# Altium footprint library samd21-temp.PCBLIB: 31 footprints (part 1 of 2)
Each footprint in its own frame and in the unit in brackets; x right, y up, seen from the top. Pads: shape width x height; smd on the part's side, far side on the other; paste and mask are expansions set on the pad; w line width, h text height; cw(c..) or ccw(c..) is an arc to the next point about the centre after c.
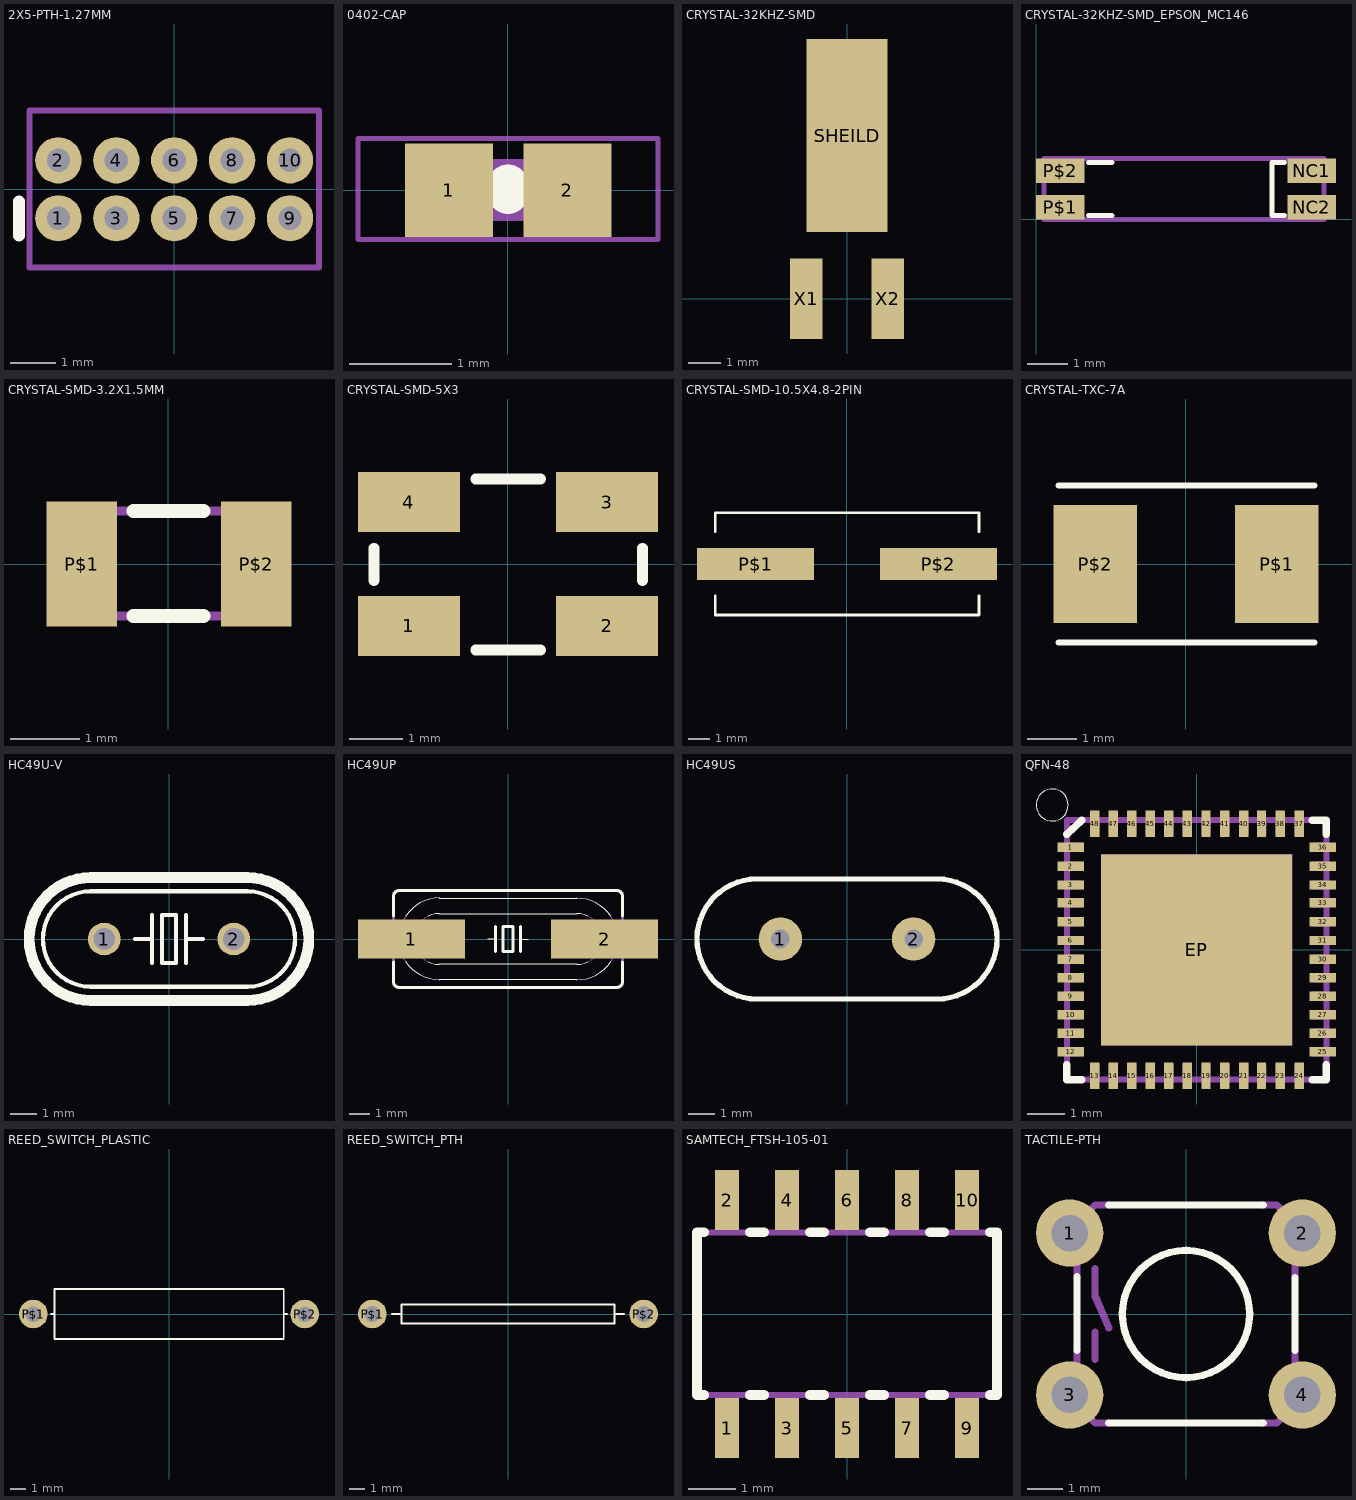
[diagram p0: the footprints below, top view; thin cyan lines are the x and y axes]

## 2X5-PTH-1.27MM [mil]
pads (10):
  round 40 hole 20: 1(-100,-25) 2(-100,25) 3(-50,-25) 4(-50,25) 5(0,-25) 6(0,25) 7(50,-25) 8(50,25) 9(100,-25) 10(100,25)
Top Overlay:
  lines w10: -133.98,-40.2 -133.98,-10.2
Mechanical 16:
  lines w5: -125,-67.52 -125,68 125,68 125,-67.52 -125,-67.52

## 0402-CAP [mil]
pads (2):
  rect 34x36 smd: 1(-22.83,0) 2(23,0)
Top Overlay:
  lines w16: 0,-1.2 0,2
Mechanical 6:
  rectangle: -7.87,-11.81 8,12
Mechanical 16:
  rectangle: -21.81,-12 -10,12
  rectangle: 11,-12 22,12
  lines w6: -9.65,-8.82 10,-8.82 ; -9.65,9 10,9
Mechanical 27:
  lines w2: -57.99,-19.02 58,-19.02 58,20 -57.99,20 -57.99,-19.02

## CRYSTAL-32KHZ-SMD [mil]
pads (3):
  rect 99x237 smd: SHEILD(0,200)
  rect 40x99 smd: X1(-50,0) X2(50,0)

## CRYSTAL-32KHZ-SMD_EPSON_MC146 [mil]
pads (4):
  rect 48x24 smd: NC1(272,48) NC2(272,12) P$1(24,12) P$2(24,48)
Top Overlay:
  lines w5: 52,4 75,4 ; 52,56 75,56 ; 245,4 233,4 233,56 245,56
Mechanical 16:
  lines w5: 8,0 284,0 284,60 8,60 8,0

## CRYSTAL-SMD-3.2X1.5MM [mil]
pads (2):
  rect 40x71 smd: P$1(-49.21,0) P$2(50,0)
Top Overlay:
  lines w8: -19.68,-29.53 20,-29.53 ; -19.68,30 20,30
Mechanical 16:
  lines w5: -62.99,-29.53 63,-29.53 63,30 -62.99,30 -62.99,-29.53

## CRYSTAL-SMD-5X3 [mil]
pads (4):
  rect 75x44 smd: 1(-72.83,-45.28) 2(73,-45.28) 3(73,46) 4(-72.83,46)
Top Overlay:
  lines w8: -98.43,-11.81 -98.43,12 ; -23.62,-62.99 24,-62.99 ; -23.62,63 24,63 ; 99,-11.81 99,12

## CRYSTAL-SMD-10.5X4.8-2PIN [mil]
pads (2):
  rect 217x60 smd: P$1(-169.29,0) P$2(170,0)
Top Overlay:
  lines w5: -244.09,-59.06 -244.09,-94.49 245,-94.49 245,-59.06 ; -244.09,60 -244.09,95 245,95 245,60

## CRYSTAL-TXC-7A [mil]
pads (2):
  rect 67x95 smd: P$1(73,0) P$2(-72.83,0)
Top Overlay:
  lines w5: -102.36,-62.99 103,-62.99 ; -102.36,63 103,63

## HC49U-V [mil]
pads (2):
  round 48 hole 32: 1(-95,0) 2(95,0)
Top Overlay:
  lines w6: -50,0 -25,0 ; -25,-35 -25,0 ; -25,35 -25,0 ; 25,-35 25,0 ; 25,35 25,0 ; 50,0 25,0 ; -115,-70 115,-70 ccw(c115,0) 115,70 -115,70 ccw(c-115,0) -115,-70 ; -10,-35 10,-35 10,35 -10,35 -10,-35
  lines w16: -115,-90 115,-90 ccw(c115,0) 115,90 -115,90 ccw(c-115,0) -115,-90
Via Holes:
  rectangle: -150,-110 150,110
  rectangle: -170,-100 -150,100
  rectangle: -190,-90 -170,90
  rectangle: -210,-70 -190,70
  rectangle: -220,-50 -210,40
  rectangle: 150,-100 170,100
  rectangle: 170,-90 190,90
  rectangle: 190,-70 210,70
  rectangle: 210,-40 220,40

## HC49UP [mil]
pads (2):
  rect 210x76 smd: 1(-190,0) 2(190,0)
Top Overlay:
  lines w2: -201.15,-45 ccw(c-135,0) -135,-80 135,-80 ccw(c135.42,0.81) 202,-45 ; -201.15,45 cw(c-134.06,0.5) -135,81 ; -156.8,-45 ccw(c-135,0) -135,-50 135,-50 ccw(c135.1,0.45) 157,-45 ; -156.8,45 cw(c-135,0) -135,50 135,50 cw(c135.1,-0.45) 157,45 ; -135,80 135,80 cw(c135.43,-0.81) 202,45 ; -40,0 -25,0 ; 25,0 40,0
  lines w6: -225,-45 -225,-85 ccw(c-215,-85) -215,-95 215,-95 ccw(c215,-85) 225,-85 225,-45 ; -225,45 -225,85 cw(c-215,85) -215,95 215,95 cw(c215,85) 225,85 225,45 ; -25,-25 -25,0 -25,25 ; 25,-25 25,0 25,25 ; -10,-25 -10,25 10,25 10,-25 -10,-25
Mechanical 16:
  lines w2: -201.15,-45 cw(c-135,0) -201.15,45 ; -156.8,-45 cw(c-135,0) -156.8,45 ; 157,-45 ccw(c135.2,0) 157,45 ; 202,-45 ccw(c135.85,0) 202,45
  lines w6: -225,-45 -225,-15 ; -225,45 -225,15 ; 225,-45 225,45 ; 225,-15 255,-15 255,15 225,15 ; -225,-15 -225,15 ; -225,-15 -255,-15 -255,15 -225,15
Via Holes:
  rectangle: -260,-120 260,120

## HC49US [mil]
pads (2):
  round 65 hole 28: 1(-100,0) 2(100,0)
Top Overlay:
  lines w8: -135,-90 135,-90 ccw(c135,0) 135,90 -135,90 ccw(c-135,0) -135,-90

## QFN-48 [mil]
pads (49):
  rect 28x10 smd: 1(-133.86,109) 2(-133.86,89) 3(-133.86,69) 4(-133.86,50) 5(-133.86,30) 6(-133.86,10) 7(-133.86,-9.84) 8(-133.86,-29.53) 9(-133.86,-49.21) 10(-133.86,-68.9) 11(-133.86,-88.58) 12(-133.86,-108.27) 25(134,-108.27) 26(134,-88.58) 27(134,-68.9) 28(134,-49.21) 29(134,-29.53) 30(134,-9.84) 31(134,10) 32(134,30) 33(134,50) 34(134,69) 35(134,89) 36(134,109)
  rect 10x28 smd: 13(-108.27,-133.86) 14(-88.58,-133.86) 15(-68.9,-133.86) 16(-49.21,-133.86) 17(-29.53,-133.86) 18(-9.84,-133.86) 19(10,-133.86) 20(30,-133.86) 21(50,-133.86) 22(69,-133.86) 23(89,-133.86) 24(109,-133.86) 37(109,134) 38(89,134) 39(69,134) 40(50,134) 41(30,134) 42(10,134) 43(-9.84,134) 44(-29.53,134) 45(-49.21,134) 46(-68.9,134) 47(-88.58,134) 48(-108.27,134)
  rect 203x203 smd: EP(0,0)
Top Overlay:
  circle w0: c-153.54,154 r17
  lines w8: -137.8,-122.05 -137.8,-137.8 -122.05,-137.8 ; -137.8,123 -122.05,138 ; 123,-137.8 138,-137.8 138,-122.05 ; 123,138 138,138 138,123
Mechanical 16:
  rectangle: -137.8,5 -122.05,15
  rectangle: -101.38,-101.38 102,102
  rectangle: -137.8,25 -122.05,35
  rectangle: -137.8,45 -122.05,55
  rectangle: -137.8,64 -122.05,74
  rectangle: -137.8,84 -122.05,94
  rectangle: -137.8,104 -122.05,114
  rectangle: -137.8,-14.76 -122.05,-4.92
  rectangle: -137.8,-34.45 -122.05,-24.61
  rectangle: -137.8,-54.13 -122.05,-44.29
  rectangle: -137.8,-73.82 -122.05,-63.98
  rectangle: -137.8,-93.5 -122.05,-83.66
  rectangle: -137.8,-113.19 -122.05,-103.35
  region: -4.92,-137.8 -4.92,-122.05 -14.76,-122.05 -14.76,-137.8
  region: -24.61,-137.8 -24.61,-122.05 -34.45,-122.05 -34.45,-137.8
  region: -44.29,-137.8 -44.29,-122.05 -54.13,-122.05 -54.13,-137.8
  region: -63.98,-137.8 -63.98,-122.05 -73.82,-122.05 -73.82,-137.8
  region: -83.66,-137.8 -83.66,-122.05 -93.5,-122.05 -93.5,-137.8
  region: -103.35,-137.8 -103.35,-122.05 -113.19,-122.05 -113.19,-137.8
  region: 14.92,-137.92 14.92,-121.92 5.08,-121.92 5.08,-137.92
  region: 34.92,-137.92 34.92,-121.92 25.08,-121.92 25.08,-137.92
  region: 54.92,-137.92 54.92,-121.92 45.08,-121.92 45.08,-137.92
  region: 74.42,-137.42 74.42,-122.42 64.58,-122.42 64.58,-137.42
  region: 93.92,-137.92 93.92,-121.92 84.08,-121.92 84.08,-137.92
  region: 113.92,-137.92 113.92,-121.92 104.08,-121.92 104.08,-137.92
  region: 138,-4.92 123,-4.92 123,-14.76 138,-14.76
  region: 138,-24.61 123,-24.61 123,-34.45 138,-34.45
  region: 138,-44.29 123,-44.29 123,-54.13 138,-54.13
  region: 138,-63.98 123,-63.98 123,-73.82 138,-73.82
  region: 138,-83.66 123,-83.66 123,-93.5 138,-93.5
  region: 138,-103.35 123,-103.35 123,-113.19 138,-113.19
  region: 138,15 123,15 123,5 138,5
  region: 138,35 123,35 123,25 138,25
  region: 138,55 123,55 123,45 138,45
  region: 138,74 123,74 123,64 138,64
  region: 138,94 123,94 123,84 138,84
  region: 138,114 123,114 123,104 138,104
  region: 5,138 5,122 15,122 15,138
  region: 25,138 25,122 35,122 35,138
  region: 45,138 45,122 55,122 55,138
  region: 64.5,137.5 64.5,122.5 74.5,122.5 74.5,137.5
  region: 84,138 84,122 94,122 94,138
  region: 104,138 104,122 114,122 114,138
  region: -14.84,137.87 -14.84,122.13 -4.84,122.13 -4.84,137.87
  region: -34.53,137.87 -34.53,122.13 -24.53,122.13 -24.53,137.87
  region: -54.21,137.87 -54.21,122.13 -44.21,122.13 -44.21,137.87
  region: -73.9,137.87 -73.9,122.13 -63.9,122.13 -63.9,137.87
  region: -93.58,137.87 -93.58,122.13 -83.58,122.13 -83.58,137.87
  region: -113.27,137.87 -113.27,122.13 -103.27,122.13 -103.27,137.87
  lines w6: -137.8,-137.8 138,-137.8 138,138 -137.8,138 -137.8,-137.8

## REED_SWITCH_PLASTIC [mil]
pads (2):
  round 74 hole 40: P$1(-350,0) P$2(350,0)
Top Overlay:
  lines w5: -303.94,0 -295.28,0 ; 304,0 296,0 ; -295.28,0 -295.28,-64.96 296,-64.96 296,0 ; -295.28,0 -295.28,65 296,65 296,0

## REED_SWITCH_PTH [mil]
pads (2):
  round 74 hole 40: P$1(-350,0) P$2(350,0)
Top Overlay:
  lines w5: -300,0 -275,0 ; 300,0 275,0 ; -275,0 -275,-25 275,-25 275,0 ; -275,0 -275,25 275,25 275,0

## SAMTECH_FTSH-105-01 [mil]
pads (10):
  rect 20x50 smd: 1(-100,-95) 2(-100,95) 3(-50,-95) 4(-50,95) 5(0,-95) 6(0,95) 7(50,-95) 8(50,95) 9(100,-95) 10(100,95)
Top Overlay:
  lines w8: -119,-67.5 -125,-67.5 -125,68 -119,68 ; -81,-67.5 -69,-67.5 ; -81,68 -69,68 ; -31,-67.5 -19,-67.5 ; -31,68 -19,68 ; 19,-67.5 31,-67.5 ; 19,68 31,68 ; 69,-67.5 81,-67.5 ; 69,68 81,68 ; 119,-67.5 125,-67.5 125,68 119,68
Mechanical 16:
  rectangle: -8,68 8,115
  rectangle: 42,68 58,115
  rectangle: 92,68 108,115
  rectangle: -58,68 -42,115
  rectangle: -108,68 -92,115
  region: 8,-67.5 -8,-67.5 -8,-115 8,-115
  region: -42,-67.5 -58,-67.5 -58,-115 -42,-115
  region: -92,-67.5 -108,-67.5 -108,-115 -92,-115
  region: 58,-67.5 42,-67.5 42,-115 58,-115
  region: 108,-67.5 92,-67.5 92,-115 108,-115
  lines w5: -125,-67.5 125,-67.5 125,68 -125,68 -125,-67.5

## TACTILE-PTH [mil]
pads (4):
  round 74 hole 40: 1(-128,89) 2(128,89) 3(-128,-89) 4(128,-89)
Top Overlay:
  circle w8: c0,0 r70
  lines w8: -120,-40 -120,41 ; -85,-120 85,-120 ; -85,120 85,120 ; 120,-40 120,40
Mechanical 16:
  lines w8: -120,-40 -120,-100 -100,-120 -85,-120 ; -120,40 -120,100 -100,120 -85,120 ; -100,-50 -100,-20 ; -100,50 -100,20 -85,-15 ; 85,-120 100,-120 120,-100 120,-40 ; 85,120 100,120 120,100 120,40